# Altium schematic symbol library 205972-0031.SchLib: 1 symbol
Pins are listed as number, name and electrical type; pins without a type are passive.

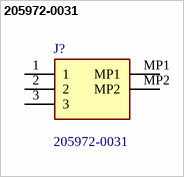
[diagram p0: symbol 205972-0031]

## 205972-0031
designator J?
Headers & Wire Housings Micro-One Hdr RA 2mm SR 3Ckt BLK; Manufacturer_Name: Molex; Geometry.Height: 7.4mm; Manufacturer_Part_Number: 205972-0031; Mouser Part Number: 538-205972-0031; Mouser Price/Stock: https://www.mouser.co.uk/ProductDetail/Molex/205972-0031?qs=yqaQSyyJnNj2RphZNNy9yg%3D%3D; Arrow Part Number: *; Arrow Price/Stock: *; Datasheet Link: https://www.molex.com/pdm_docs/sd/2059720031_sd.pdf
footprint 2059720031
pins: 1, 2, 3, MP1, MP2